# Altium footprint library DISPLAY.PcbLib: 5 footprints
Each footprint in its own frame and in the unit in brackets; x right, y up, seen from the top. Pads: shape width x height; smd on the part's side, far side on the other; paste and mask are expansions set on the pad; w line width, h text height; cw(c..) or ccw(c..) is an arc to the next point about the centre after c.
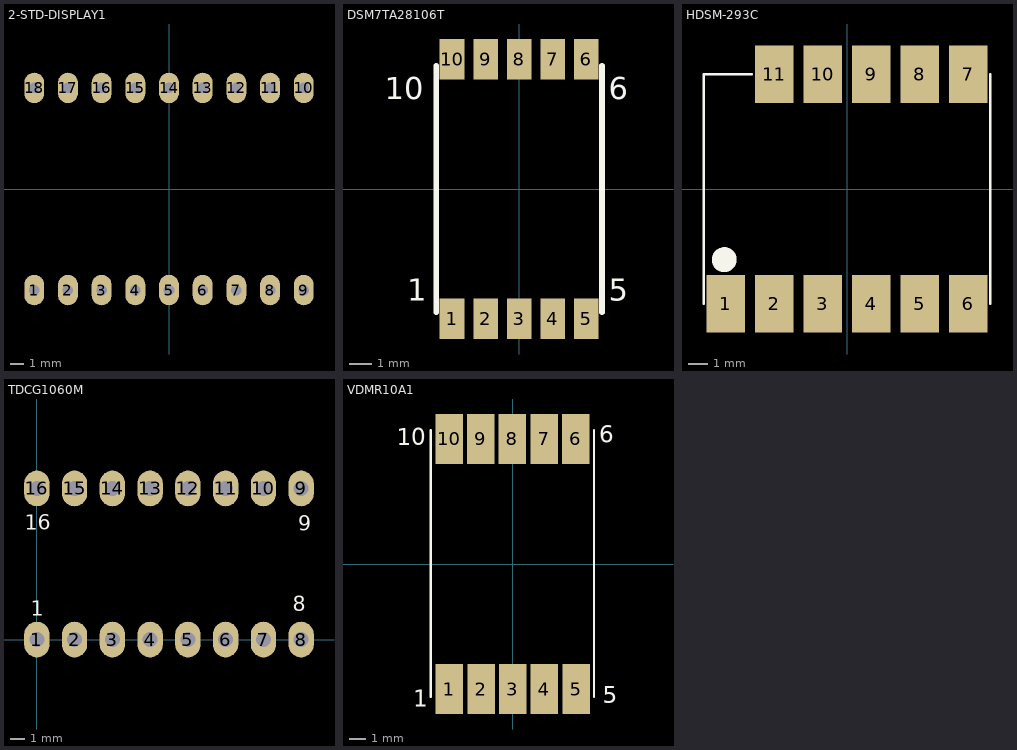
[diagram p0: the footprints below, top view; thin cyan lines are the x and y axes]

## 2-STD-DISPLAY1 [mm]
pads (18):
  oval 1.5x2.3 hole 0.8: 1(-10.16,-7.62) 2(-7.62,-7.62) 3(-5.08,-7.62) 4(-2.54,-7.62) 5(0,-7.62) 6(2.54,-7.62) 7(5.08,-7.62) 8(7.62,-7.62) 9(10.16,-7.62) 10(10.16,7.62) 11(7.62,7.62) 12(5.08,7.62) 13(2.54,7.62) 14(0,7.62) 15(-2.54,7.62) 16(-5.08,7.62) 17(-7.62,7.62) 18(-10.16,7.62)
3D body "end-el-san Co Ltd-King Bright DX56-51.step": height 6.87, standoff -5.13, extent -12.5,-8.51 12.5,8.51

## DSM7TA28106T [mm]
pads (10):
  rect 1.1x1.8 smd: 1(-3,-5.8) 2(-1.5,-5.8) 3(0,-5.8) 4(1.5,-5.8) 5(3,-5.8) 6(3,5.8) 7(1.5,5.8) 8(0,5.8) 9(-1.5,5.8) 10(-3,5.8)
Top Overlay:
  lines w0.254: -3.7,-5.5 -3.7,5.5 ; 3.7,-5.5 3.7,5.5
  text "1" at -5,-5 h1
  text "5" at 4,-5 h1
  text "6" at 4,4 h1
  text "10" at -6,4 h1
3D body "DSM7T28.STEP": height 4.01, standoff 0.01, extent -3.7,-6 3.7,6

## HDSM-293C [mm]
pads (11):
  rect 2x3 smd: 1(-6.35,-6) 2(-3.81,-6) 3(-1.27,-6) 4(1.27,-6) 5(3.81,-6) 6(6.35,-6) 7(6.35,6) 8(3.81,6) 9(1.27,6) 10(-1.27,6) 11(-3.81,6)
Top Overlay:
  circle w1: c-6.425,-3.7 r0.152
  lines w0.127: -7.5,-6 -7.5,6 -4.975,6 ; 7.5,-6 7.5,6

## TDCG1060M [mm]
pads (16):
  oval 1.7x2.4 hole 1: 1(0,0) 2(2.54,0) 3(5.08,0) 4(7.62,0) 5(10.16,0) 6(12.7,0) 7(15.24,0) 8(17.78,0) 9(17.78,10.16) 10(15.24,10.16) 11(12.7,10.16) 12(10.16,10.16) 13(7.62,10.16) 14(5.08,10.16) 15(2.54,10.16) 16(0,10.16)
Top Overlay:
  text "16" at -0.8,7.4 h1
  text "9" at 17.6,7.3 h1
  text "8" at 17.2,1.9 h1
  text "1" at -0.4,1.6 h1
3D body "User Library-ltc-4727jr.STEP": height 7.01, standoff -3.39, extent -11.19,-1.3 28.99,11.5

## VDMR10A1 [mm]
pads (10):
  rect 1.65x3 smd: 1(-3.787,-7.5) 2(-1.887,-7.5) 3(0.013,-7.5) 4(1.913,-7.5) 5(3.813,-7.5) 6(3.788,7.5) 7(1.887,7.5) 8(-0.012,7.5) 9(-1.913,7.5) 10(-3.812,7.5)
Top Overlay:
  lines w0.127: -4.912,-7.975 -4.912,8.05 ; 4.888,-7.975 4.888,8.05
  text "10" at -6.962,7.125 h1
  text "6" at 5.213,7.275 h1
  text "5" at 5.413,-8.35 h1
  text "1" at -5.962,-8.55 h1
3D body "DISPLAY.stp": height 2.12, standoff 0.01, extent -4.912,-7.975 4.888,8.025